# Altium integrated library 3M.IntLib: 15 symbols
Pins are listed as number, name and electrical type; pins without a type are passive.

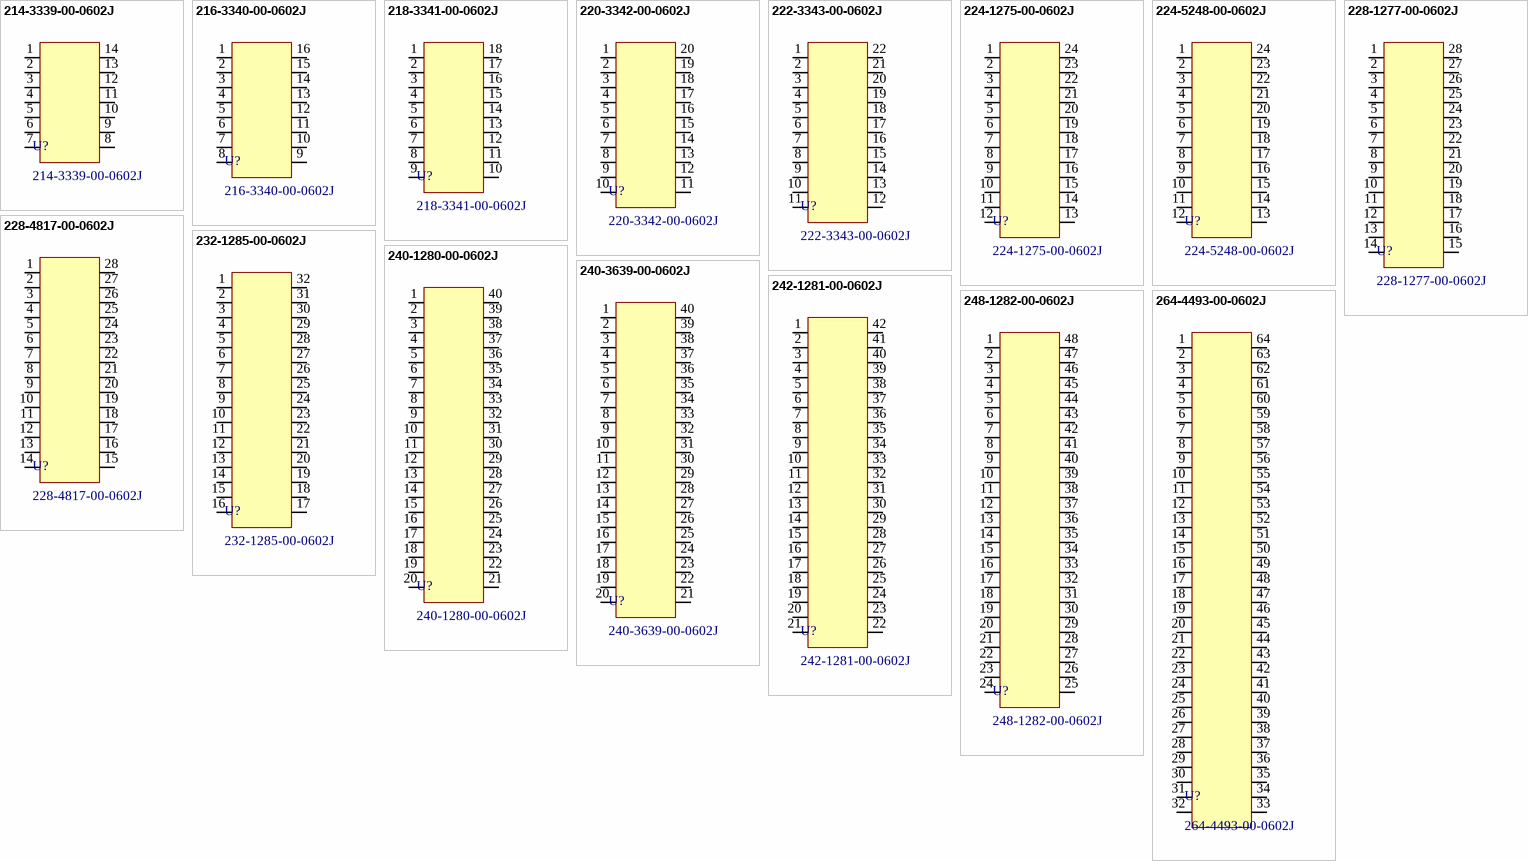
[diagram p0: symbols 214-3339-00-0602J to 264-4493-00-0602J]

## 214-3339-00-0602J
designator U?
DIP Sockets - 14 Pins
footprint 214-3339-00-0602J
pins: 1, 2, 3, 4, 5, 6, 7, 8, 9, 10, 11, 12, 13, 14

## 216-3340-00-0602J
designator U?
DIP Sockets - 16 Pins
footprint 216-3340-00-0602J
pins: 1, 2, 3, 4, 5, 6, 7, 8, 9, 10, 11, 12, 13, 14, 15, 16

## 218-3341-00-0602J
designator U?
DIP Sockets - 18 Pins
footprint 218-3341-00-0602J
pins: 1, 2, 3, 4, 5, 6, 7, 8, 9, 10, 11, 12, 13, 14, 15, 16, 17, 18

## 220-3342-00-0602J
designator U?
DIP Sockets - 20 Pins
footprint 220-3342-00-0602J
pins: 1, 2, 3, 4, 5, 6, 7, 8, 9, 10, 11, 12, 13, 14, 15, 16, 17, 18, 19, 20

## 222-3343-00-0602J
designator U?
DIP Sockets - 22 Pins
footprint 222-3343-00-0602J
pins: 1, 2, 3, 4, 5, 6, 7, 8, 9, 10, 11, 12, 13, 14, 15, 16, 17, 18, 19, 20, 21, 22

## 224-1275-00-0602J
designator U?
DIP Sockets - 24 Pins
footprint 224-1275-00-0602J
pins: 1, 2, 3, 4, 5, 6, 7, 8, 9, 10, 11, 12, 13, 14, 15, 16, 17, 18, 19, 20, 21, 22, 23, 24

## 224-5248-00-0602J
designator U?
DIP Sockets - 24 Pins
footprint 224-5248-00-0602J
pins: 1, 2, 3, 4, 5, 6, 7, 8, 9, 10, 11, 12, 13, 14, 15, 16, 17, 18, 19, 20, 21, 22, 23, 24

## 228-1277-00-0602J
designator U?
DIP Sockets - 28 Pins
footprint 228-1277-00-0602J
pins: 1, 2, 3, 4, 5, 6, 7, 8, 9, 10, 11, 12, 13, 14, 15, 16, 17, 18, 19, 20, 21, 22, 23, 24, 25, 26, 27, 28

## 228-4817-00-0602J
designator U?
DIP Sockets - 28 Pins
footprint 228-4817-00-0602J
pins: 1, 2, 3, 4, 5, 6, 7, 8, 9, 10, 11, 12, 13, 14, 15, 16, 17, 18, 19, 20, 21, 22, 23, 24, 25, 26, 27, 28

## 232-1285-00-0602J
designator U?
DIP Sockets - 32 Pins
footprint 232-1285-00-0602J
pins: 1, 2, 3, 4, 5, 6, 7, 8, 9, 10, 11, 12, 13, 14, 15, 16, 17, 18, 19, 20, 21, 22, 23, 24, 25, 26, 27, 28, 29, 30, 31, 32

## 240-1280-00-0602J
designator U?
DIP Sockets - 40 Pins
footprint 240-1280-00-0602J
pins: 1, 2, 3, 4, 5, 6, 7, 8, 9, 10, 11, 12, 13, 14, 15, 16, 17, 18, 19, 20, 21, 22, 23, 24, 25, 26, 27, 28, 29, 30, 31, 32, 33, 34, 35, 36, 37, 38, 39, 40

## 240-3639-00-0602J
designator U?
DIP Sockets - 40 Pins
footprint 240-3639-00-0602J
pins: 1, 2, 3, 4, 5, 6, 7, 8, 9, 10, 11, 12, 13, 14, 15, 16, 17, 18, 19, 20, 21, 22, 23, 24, 25, 26, 27, 28, 29, 30, 31, 32, 33, 34, 35, 36, 37, 38, 39, 40

## 242-1281-00-0602J
designator U?
DIP Sockets - 42 Pins
footprint 242-1281-00-0602J
pins: 1, 2, 3, 4, 5, 6, 7, 8, 9, 10, 11, 12, 13, 14, 15, 16, 17, 18, 19, 20, 21, 22, 23, 24, 25, 26, 27, 28, 29, 30, 31, 32, 33, 34, 35, 36, 37, 38, 39, 40, 41, 42

## 248-1282-00-0602J
designator U?
DIP Sockets - 48 Pins
footprint 248-1282-00-0602J
pins: 1, 2, 3, 4, 5, 6, 7, 8, 9, 10, 11, 12, 13, 14, 15, 16, 17, 18, 19, 20, 21, 22, 23, 24, 25, 26, 27, 28, 29, 30, 31, 32, 33, 34, 35, 36, 37, 38, 39, 40, 41, 42, 43, 44, 45, 46, 47, 48

## 264-4493-00-0602J
designator U?
DIP Sockets - 64 Pins
footprint 264-4493-00-0602J
pins: 1, 2, 3, 4, 5, 6, 7, 8, 9, 10, 11, 12, 13, 14, 15, 16, 17, 18, 19, 20, 21, 22, 23, 24, 25, 26, 27, 28, 29, 30, 31, 32, 33, 34, 35, 36, 37, 38, 39, 40, 41, 42, 43, 44, 45, 46, 47, 48, 49, 50, 51, 52, 53, 54, 55, 56, 57, 58, 59, 60, 61, 62, 63, 64